# EAGLE library part ACCELEROMETER (library icnh3)
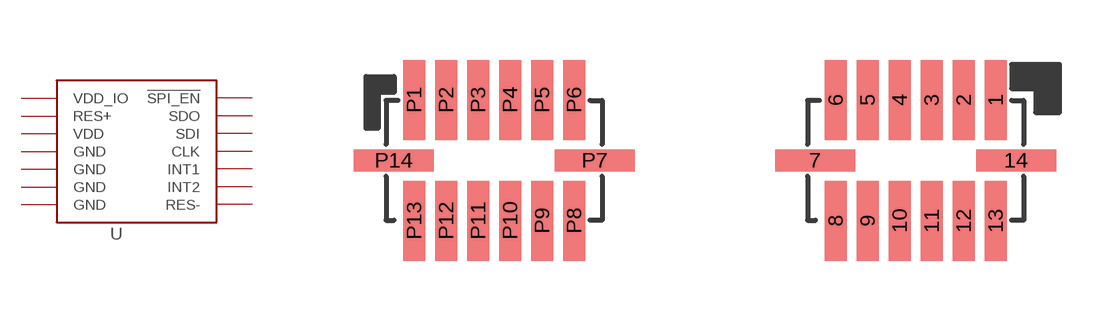
[diagram p18: symbol with the pads of LGA14; footprints LGA14, LGA14R]

Designator prefix U

## ACCELEROMETER  [LGA14]
P1  VDD_IO  pwr
P2  GND  pwr
P3  RES+  pwr
P4  GND  pwr
P5  GND  pwr
P6  VDD  pwr
P7  !SPI_EN!
P8  INT1
P9  INT2
P10  GND  pwr
P11  RES-  pwr
P12  SDO
P13  SDI
P14  CLK

## ACCELEROMETERSTRAIGHTWAY  [LGA14R]
1  VDD_IO  pwr
2  GND  pwr
3  RES+  pwr
4  GND  pwr
5  GND  pwr
6  VDD  pwr
7  !SPI_EN!
8  INT1
9  INT2
10  GND  pwr
11  RES-  pwr
12  SDO
13  SDI
14  CLK

## Footprint LGA14 (pad centres in mm)
smd 0.55 x 2: P1 -2,1.512; P2 -1.2,1.512; P3 -0.4,1.512; P4 0.4,1.512; P5 1.2,1.512; P6 2,1.512; P8 2,-1.512; P9 1.2,-1.512; P10 0.4,-1.512; P11 -0.4,-1.512; P12 -1.2,-1.512; P13 -2,-1.512
smd 2 x 0.55: P7 2.513,0; P14 -2.513,0

## Footprint LGA14R (pad centres in mm)
smd 0.55 x 2: 1 2,1.512; 2 1.2,1.512; 3 0.4,1.512; 4 -0.4,1.512; 5 -1.2,1.512; 6 -2,1.512; 8 -2,-1.512; 9 -1.2,-1.512; 10 -0.4,-1.512; 11 0.4,-1.512; 12 1.2,-1.512; 13 2,-1.512
smd 2 x 0.55: 7 -2.513,0; 14 2.513,0